# Altium footprint library 2226051_이강민_PcbLib_1.PcbLib: 7 footprints
Each footprint in its own frame and in the unit in brackets; x right, y up, seen from the top. Pads: shape width x height; smd on the part's side, far side on the other; paste and mask are expansions set on the pad; w line width, h text height; cw(c..) or ccw(c..) is an arc to the next point about the centre after c.
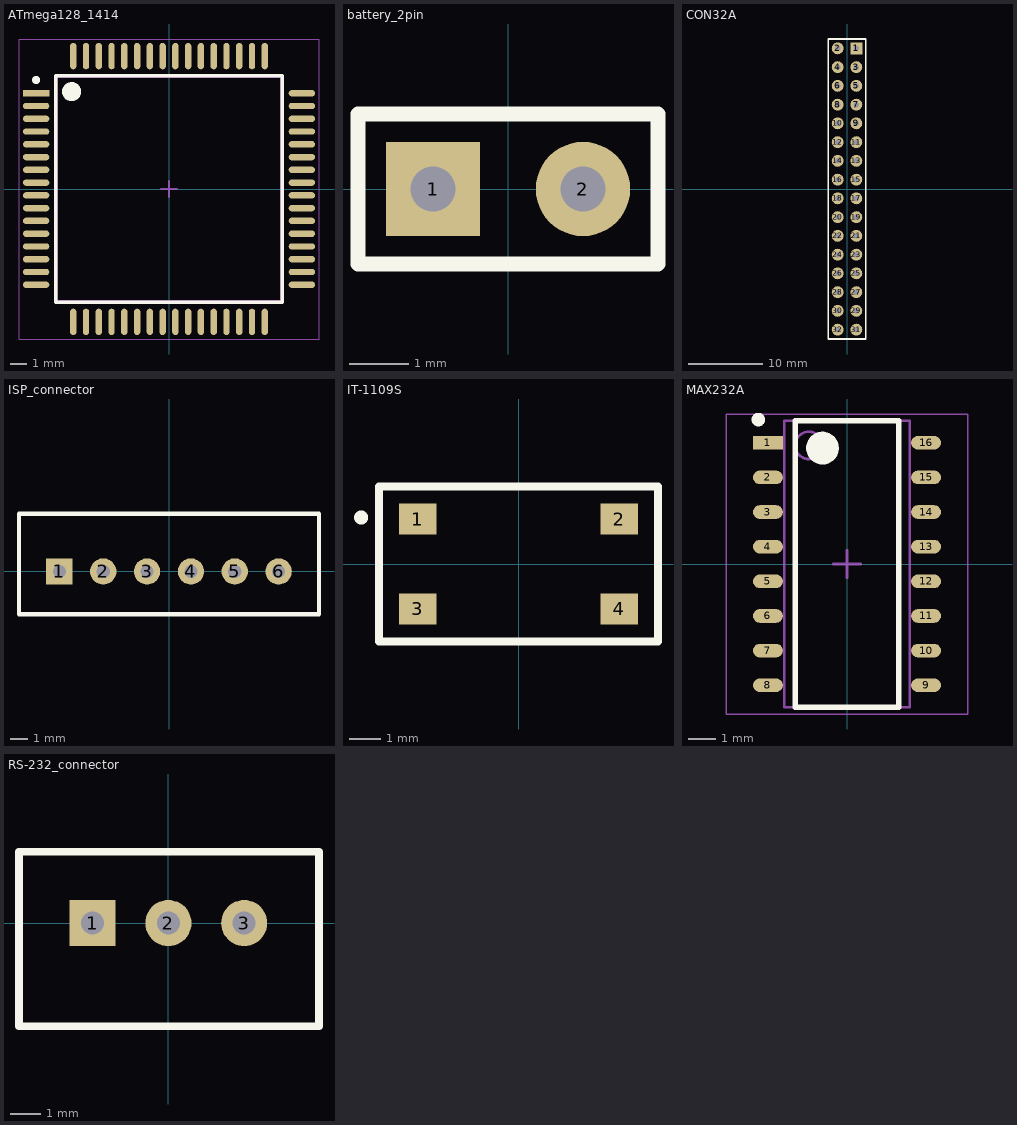
[diagram p0: the footprints below, top view; thin cyan lines are the x and y axes]

## ATmega128_1414 [mm] "TQFP, 64-Leads, Body 14.00x14.00mm, Pitch 0.80mm, IPC Medium Density"
height 1.2
pads (64):
  rect 1.65x0.4 smd: 1(-8.325,6)
  oval 1.65x0.4 smd: 2(-8.325,5.2) 3(-8.325,4.4) 4(-8.325,3.6) 5(-8.325,2.8) 6(-8.325,2) 7(-8.325,1.2) 8(-8.325,0.4) 9(-8.325,-0.4) 10(-8.325,-1.2) 11(-8.325,-2) 12(-8.325,-2.8) 13(-8.325,-3.6) 14(-8.325,-4.4) 15(-8.325,-5.2) 16(-8.325,-6) 33(8.325,-6) 34(8.325,-5.2) 35(8.325,-4.4) 36(8.325,-3.6) 37(8.325,-2.8) 38(8.325,-2) 39(8.325,-1.2) 40(8.325,-0.4) 41(8.325,0.4) 42(8.325,1.2) 43(8.325,2) 44(8.325,2.8) 45(8.325,3.6) 46(8.325,4.4) 47(8.325,5.2) 48(8.325,6)
  oval 0.4x1.65 smd: 17(-6,-8.325) 18(-5.2,-8.325) 19(-4.4,-8.325) 20(-3.6,-8.325) 21(-2.8,-8.325) 22(-2,-8.325) 23(-1.2,-8.325) 24(-0.4,-8.325) 25(0.4,-8.325) 26(1.2,-8.325) 27(2,-8.325) 28(2.8,-8.325) 29(3.6,-8.325) 30(4.4,-8.325) 31(5.2,-8.325) 32(6,-8.325) 49(6,8.325) 50(5.2,8.325) 51(4.4,8.325) 52(3.6,8.325) 53(2.8,8.325) 54(2,8.325) 55(1.2,8.325) 56(0.4,8.325) 57(-0.4,8.325) 58(-1.2,8.325) 59(-2,8.325) 60(-2.8,8.325) 61(-3.6,8.325) 62(-4.4,8.325) 63(-5.2,8.325) 64(-6,8.325)
Top Overlay:
  circle w0.25: c-8.325,6.825 r0.125
  circle w0.6: c-6.1,6.1 r0.3
  lines w0.2: -7.1,-7.1 -7.1,7.1 7.1,7.1 7.1,-7.1 -7.1,-7.1
Mechanical 13:
  circle w0.1: c-6.1,6.1 r0.5
  lines w0.1: -7,-7 -7,7 7,7 7,-7 -7,-7
Mechanical 15:
  lines w0.05: -9.4,-9.4 -9.4,9.4 9.4,9.4 9.4,-9.4 -9.4,-9.4
  lines w0.1: -0.5,0 0.5,0 ; 0,-0.5 0,0.5
3D body "User Library-QFP64-1414.STEP": height 2.85, standoff 0, extent -8.635,-8.635 8.635,8.635

## battery_2pin [mm]
pads (2):
  rect 1.6x1.6 hole 0.762 square: 1(-1.27,0)
  round 1.6 hole 0.762 square: 2(1.27,0)
Top Overlay:
  lines w0.254: -2.54,-1.27 -2.54,1.27 2.54,1.27 2.54,-1.27 -2.54,-1.27
3D body "2.54MM_MALE_STACK.STEP": height 8.4, standoff -3, extent -2.54,-1.27 2.54,1.27

## CON32A [mm]
pads (32):
  rect 1.6x1.6 hole 0.762 square: 1(1.27,19.05)
  round 1.6 hole 0.762 square: 2(-1.27,19.05) 3(1.27,16.51) 4(-1.27,16.51) 5(1.27,13.97) 6(-1.27,13.97) 7(1.27,11.43) 8(-1.27,11.43) 9(1.27,8.89) 10(-1.27,8.89) 11(1.27,6.35) 12(-1.27,6.35) 13(1.27,3.81) 14(-1.27,3.81) 15(1.27,1.27) 16(-1.27,1.27) 17(1.27,-1.27) 18(-1.27,-1.27) 19(1.27,-3.81) 20(-1.27,-3.81) 21(1.27,-6.35) 22(-1.27,-6.35) 23(1.27,-8.89) 24(-1.27,-8.89) 25(1.27,-11.43) 26(-1.27,-11.43) 27(1.27,-13.97) 28(-1.27,-13.97) 29(1.27,-16.51) 30(-1.27,-16.51) 31(1.27,-19.05) 32(-1.27,-19.05)
Top Overlay:
  lines w0.254: -2.54,-20.32 2.54,-20.32 2.54,20.32 -2.54,20.32 -2.54,-20.32
3D body "User Library-CON_2X016_2.54MM_MALE_STACK.STEP": height 8.4, standoff -3, extent -2.54,-20.32 2.54,20.32

## ISP_connector [mil]
pads (6):
  rect 60x60 hole 30 square: 1(-250,0)
  round 60 hole 30 square: 2(-150,0) 3(-50,0) 4(50,0) 5(150,0) 6(250,0)
Top Overlay:
  lines w10: -342,-98 342,-98 342,132 -342,132 -342,-98
3D body "6Pin_2_54mm.STEP": height 291.87, standoff -110.13, extent -342,-100 342,130

## IT-1109S [mm]
pads (4):
  rect 1.2x1 smd: 1(-3.25,1.45) 2(3.25,1.45) 3(-3.25,-1.45) 4(3.25,-1.45)
Top Overlay:
  circle w0.254: c-5.08,1.5 r0.1
  lines w0.254: -4.5,-2.5 4.5,-2.5 4.5,2.5 -4.5,2.5 -4.5,-2.5
3D body "User Library-IT-1109S.STEP": height 3.8, standoff 0, extent -3.75,-2.25 3.75,2.25

## MAX232A [mm] "SOIC, 16-Leads, Body 10.30x4.50mm, Pitch 1.27mm, IPC Medium Density"
height 2.65
pads (16):
  rect 1.1x0.5 smd: 1(-2.9,4.44)
  oval 1.1x0.5 smd: 2(-2.9,3.175) 3(-2.9,1.905) 4(-2.9,0.635) 5(-2.9,-0.635) 6(-2.9,-1.905) 7(-2.9,-3.175) 8(-2.9,-4.445) 9(2.9,-4.445) 10(2.9,-3.175) 11(2.9,-1.905) 12(2.9,-0.635) 13(2.9,0.635) 14(2.9,1.905) 15(2.9,3.175) 16(2.9,4.445)
Top Overlay:
  circle w0.25: c-3.25,5.295 r0.125
  circle w0.6: c-0.9,4.25 r0.3
  lines w0.2: -1.9,-5.25 -1.9,5.25 1.9,5.25 1.9,-5.25 -1.9,-5.25
Mechanical 13:
  circle w0.1: c-1.4,4.35 r0.5
  lines w0.1: -2.3,-5.25 -2.3,5.25 2.3,5.25 2.3,-5.25 -2.3,-5.25
Mechanical 15:
  lines w0.05: -4.425,-5.5 -4.425,5.5 4.425,5.5 4.425,-5.5 -4.425,-5.5
  lines w0.1: -0.5,0 0.5,0 ; 0,-0.5 0,0.5
3D body "User Library-SOIC16.STEP": height 1.7, standoff 0, extent -3,-5.1 3,5.1

## RS-232_connector [mil]
pads (3):
  rect 60x60 hole 30 square: 1(-98.43,0)
  round 60 hole 30 square: 2(0,0) 3(98.43,0)
Top Overlay:
  lines w10: 195.67,92.52 195.67,-133.85 -194.1,-133.85 -194.1,92.52 195.67,92.52 ; 195.67,92.52 195.67,92.52
3D body "3pin.STEP": height 275.59, standoff -133.86, extent -194.09,-133.86 195.67,92.52